# EAGLE library part HUT_4PLE_MITTE (library isysbus_modulsystem)
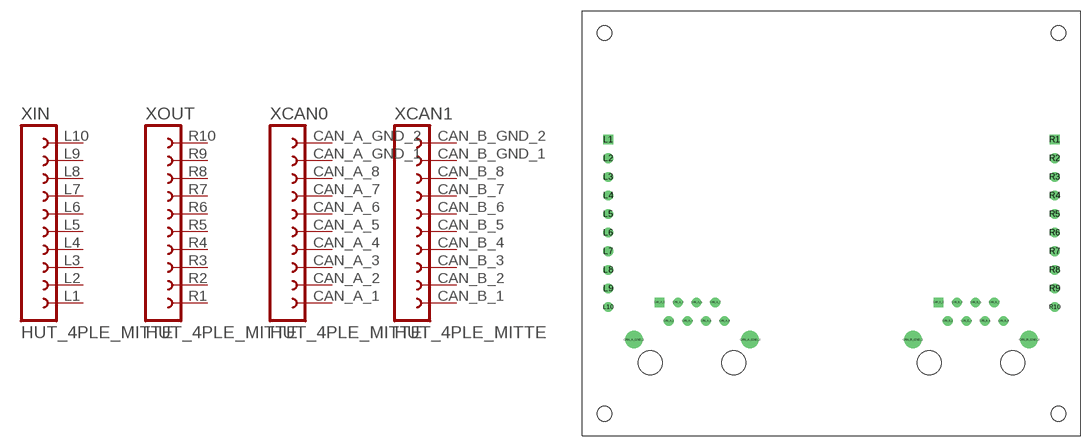
[diagram p8: symbol with the pads of HUT_4PLE_MITTE; footprint HUT_4PLE_MITTE]

Designator prefix X; gates IN=CON_FEMALE_1X10 OUT=CON_FEMALE_1X10 CAN0=CON_FEMALE_1X10 CAN1=CON_FEMALE_1X10

## HUT_4PLE_MITTE  [HUT_4PLE_MITTE]
CAN_A_1  CAN0:1  pas
CAN_A_2  CAN0:2  pas
CAN_A_3  CAN0:3  pas
CAN_A_4  CAN0:4  pas
CAN_A_5  CAN0:5  pas
CAN_A_6  CAN0:6  pas
CAN_A_7  CAN0:7  pas
CAN_A_8  CAN0:8  pas
CAN_A_GND_1  CAN0:9  pas
CAN_A_GND_2  CAN0:10  pas
CAN_B_1  CAN1:1  pas
CAN_B_2  CAN1:2  pas
CAN_B_3  CAN1:3  pas
CAN_B_4  CAN1:4  pas
CAN_B_5  CAN1:5  pas
CAN_B_6  CAN1:6  pas
CAN_B_7  CAN1:7  pas
CAN_B_8  CAN1:8  pas
CAN_B_GND_1  CAN1:9  pas
CAN_B_GND_2  CAN1:10  pas
L1  IN:1  pas
L2  IN:2  pas
L3  IN:3  pas
L4  IN:4  pas
L5  IN:5  pas
L6  IN:6  pas
L7  IN:7  pas
L8  IN:8  pas
L9  IN:9  pas
L10  IN:10  pas
R1  OUT:1  pas
R2  OUT:2  pas
R3  OUT:3  pas
R4  OUT:4  pas
R5  OUT:5  pas
R6  OUT:6  pas
R7  OUT:7  pas
R8  OUT:8  pas
R9  OUT:9  pas
R10  OUT:10  pas

## Footprint HUT_4PLE_MITTE (pad centres in mm)
drill 0.8 square: CAN_A_1 -23.495,-10.795; CAN_B_1 14.605,-10.795; L1 -30.48,11.43; R1 30.48,11.43
drill 0.8 round: CAN_A_2 -22.225,-13.335; CAN_A_3 -20.955,-10.795; CAN_A_4 -19.685,-13.335; CAN_A_5 -18.415,-10.795; CAN_A_6 -17.145,-13.335; CAN_A_7 -15.875,-10.795; CAN_A_8 -14.605,-13.335; CAN_B_2 15.875,-13.335; CAN_B_3 17.145,-10.795; CAN_B_4 18.415,-13.335; CAN_B_5 19.685,-10.795; CAN_B_6 20.955,-13.335; CAN_B_7 22.225,-10.795; CAN_B_8 23.495,-13.335; L2 -30.48,8.89; L3 -30.48,6.35; L4 -30.48,3.81; L5 -30.48,1.27; L6 -30.48,-1.27; L7 -30.48,-3.81; L8 -30.48,-6.35; L9 -30.48,-8.89; L10 -30.48,-11.43; R2 30.48,8.89; R3 30.48,6.35; R4 30.48,3.81; R5 30.48,1.27; R6 30.48,-1.27; R7 30.48,-3.81; R8 30.48,-6.35; R9 30.48,-8.89; R10 30.48,-11.43
drill 1.6 round: CAN_A_GND_1 -26.988,-15.875; CAN_A_GND_2 -11.113,-15.875; CAN_B_GND_1 11.113,-15.875; CAN_B_GND_2 26.988,-15.875
hole 2 at -31,26
hole 2 at -31,-26
hole 2 at 31,-26
hole 2 at 31,26
hole 3.25 at -13.335,-19.05
hole 3.25 at -24.765,-19.05
hole 3.25 at 13.335,-19.05
hole 3.25 at 24.765,-19.05